# Altium footprint library tdd01h0sb1r.PcbLib: 1 footprints
Each footprint in its own frame and in the unit in brackets; x right, y up, seen from the top. Pads: shape width x height; smd on the part's side, far side on the other; paste and mask are expansions set on the pad; w line width, h text height; cw(c..) or ccw(c..) is an arc to the next point about the centre after c.
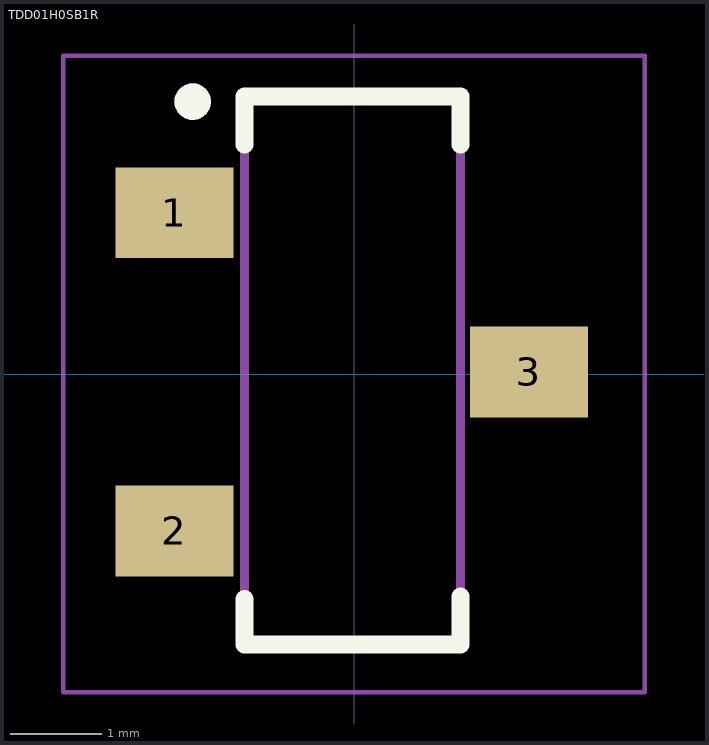
[diagram p0: the footprint, top view; thin cyan lines are the x and y axes]

## TDD01H0SB1R [mm]
height 2.3
pads (3):
  rect 1.3x1 smd: 1(-1.975,1.774) 2(-1.975,-1.726) 3(1.925,0.024)
Top Overlay:
  circle w0.2: c-1.775,2.995 r0.1
  lines w0.2: -1.205,-2.475 -1.205,-2.975 1.17,-2.975 1.17,-2.446 ; -1.205,2.525 -1.205,3.054 ; -1.2,3.054 1.17,3.054 1.17,2.525
Top Comment:
  text ".Comment" at 1.1,4 h1.2
Top Designator:
  text ".Designator" at -0.5,4 h1.2
Top Component Outline:
  circle w0.2: c-1.775,3 r0.1
  lines w0.1: -1.205,3.051 -1.205,-2.975 1.17,-2.975 1.17,3.051 -1.195,3.047
Top Courtyard (Mech15):
  lines w0.05: -3.2,-3.5 3.2,-3.5 3.2,3.5 0,3.5 -3.2,3.5 -3.2,-3.5
3D body "tdd01h0sb1r.sldprt": height 2.29, standoff -0.01, extent -2.125,-2.975 2.075,3.025